# Altium footprint library LED1206SIDE_R.PcbLib: 1 footprints
Each footprint in its own frame and in the unit in brackets; x right, y up, seen from the top. Pads: shape width x height; smd on the part's side, far side on the other; paste and mask are expansions set on the pad; w line width, h text height; cw(c..) or ccw(c..) is an arc to the next point about the centre after c.
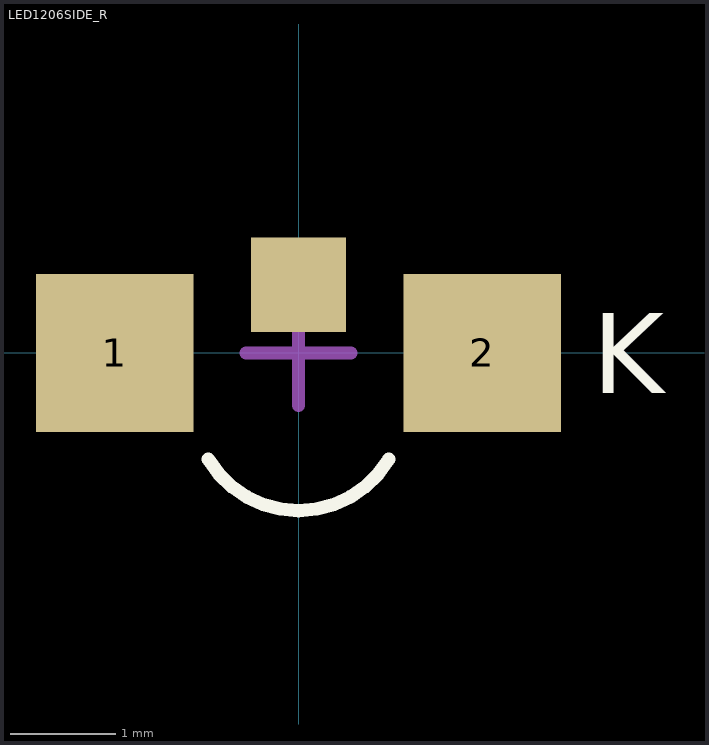
[diagram p0: the footprint, top view; thin cyan lines are the x and y axes]

## LED1206SIDE_R [mm]
height 0.7
pads (3):
  rect 1.5x1.5 smd: 1(-1.75,0) 2(1.75,0)
  rect 0.9x0.9 smd: ""(0,0.65)
Top Overlay:
  lines w0.127: -0.858,-1.013 ccw(c0,-0.5) 0.858,-1.013
  text "K" at 2.794,-0.381 h0.76
Mechanical 15:
  lines w0.127: -0.5,0 0.5,0 ; 0,-0.5 0,0.5
3D body: height 1, standoff 0, extent -1.5,-1.484 1.5,0.516